# Altium schematic symbol library SwitchesAndRelays.SchLib: 10 symbols
Pins are listed as number, name and electrical type; pins without a type are passive.

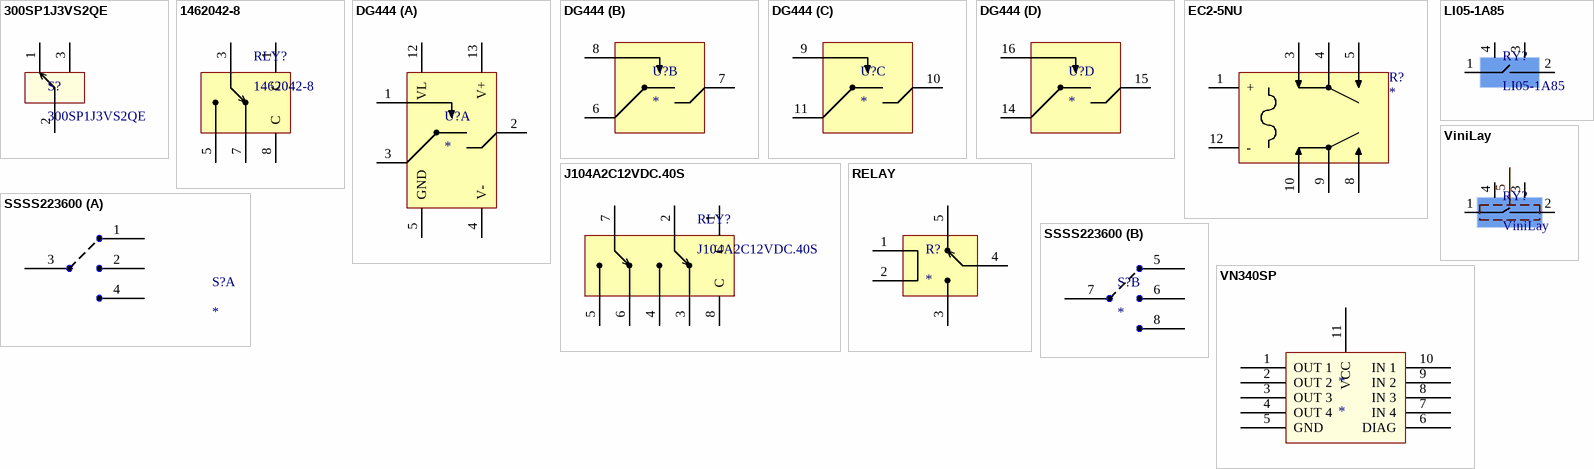
[diagram p0: symbols 300SP1J3VS2QE to VN340SP]

## 300SP1J3VS2QE
designator S?
Toggle Switch SPST; Supplier 1: Digi-Key; Supplier Part Number 1: 300SP1J3VS2QE-ND
footprint 300SP1J3VS2QE
pins: 1, 2, 3

## 1462042-8
designator RLY?
Low Signal Relays - PCB IMC03GR=IM Relay 140 mW 5 V 1C; Supplier 1: Mouser; Supplier Part Number 1: 655-1462042-8
footprint 1462042-8 (Footprint not found)
pins: 1 C, 3, 5, 7, 8 C

## DG444
designator U?
footprint SOIC-16 (Footprint not found)
part A pins: 1, 2, 3, 4 V-, 5 GND, 12 VL, 13 V+
part B pins: 6, 7, 8
part C pins: 9, 10, 11
part D pins: 14, 15, 16

## EC2-5NU
designator R?
Supplier 1: Digi-Key; Supplier Part Number 1: 399-11052-5-ND
footprint EC2 (Footprint not found)
pins: 1 +, 3, 4, 5, 8, 9, 10, 12 -

## J104A2C12VDC.40S
designator RLY?
General Purpose Relay DPDT (2 Form C) 12VDC Coil Through Hole; Supplier 1: Digi-Key; Supplier Part Number 1: 2449-J104A2C12VDC.40S-ND
footprint J104A2C12VDC.40S (Footprint not found)
pins: 1 C, 2, 3, 4, 5, 6, 7, 8 C

## LI05-1A85
designator RY?
Supplier 1: Digi-Key; Supplier 2: Mouser; Supplier Part Number 1: 374-1295-ND; Supplier Part Number 2: 876-LI05-1A85
footprint 1605185000 (Footprint not found)
pins: 1, 2, 3, 4

## RELAY
designator R?
footprint RELAY (Footprint not found)
pins: 1, 2, 3, 4, 5

## SSSS223600
designator S?
footprint SSSS223600 (Footprint not found)
part A pins: 1, 2, 3, 4
part B pins: 5, 6, 7, 8

## ViniLay
designator RY?
Supplier 1: Digi-Key; Supplier 2: Mouser; Supplier Part Number 1: 374-1295-ND; Supplier Part Number 2: 876-LI05-1A85
footprint ViniLay (Footprint not found)
footprint ViniLay1Pin
pins: 1, 2, 3, 4, 5

## VN340SP
designator *
footprint PowerSO-10 (Footprint not found)
pins: 1 OUT 1, 2 OUT 2, 3 OUT 3, 4 OUT 4, 5 GND, 6 DIAG, 7 IN 4, 8 IN 3, 9 IN 2, 10 IN 1, 11 VCC